# Altium footprint library bot_pcblib.PcbLib: 31 footprints (part 1 of 2)
Each footprint in its own frame and in the unit in brackets; x right, y up, seen from the top. Pads: shape width x height; smd on the part's side, far side on the other; paste and mask are expansions set on the pad; w line width, h text height; cw(c..) or ccw(c..) is an arc to the next point about the centre after c.
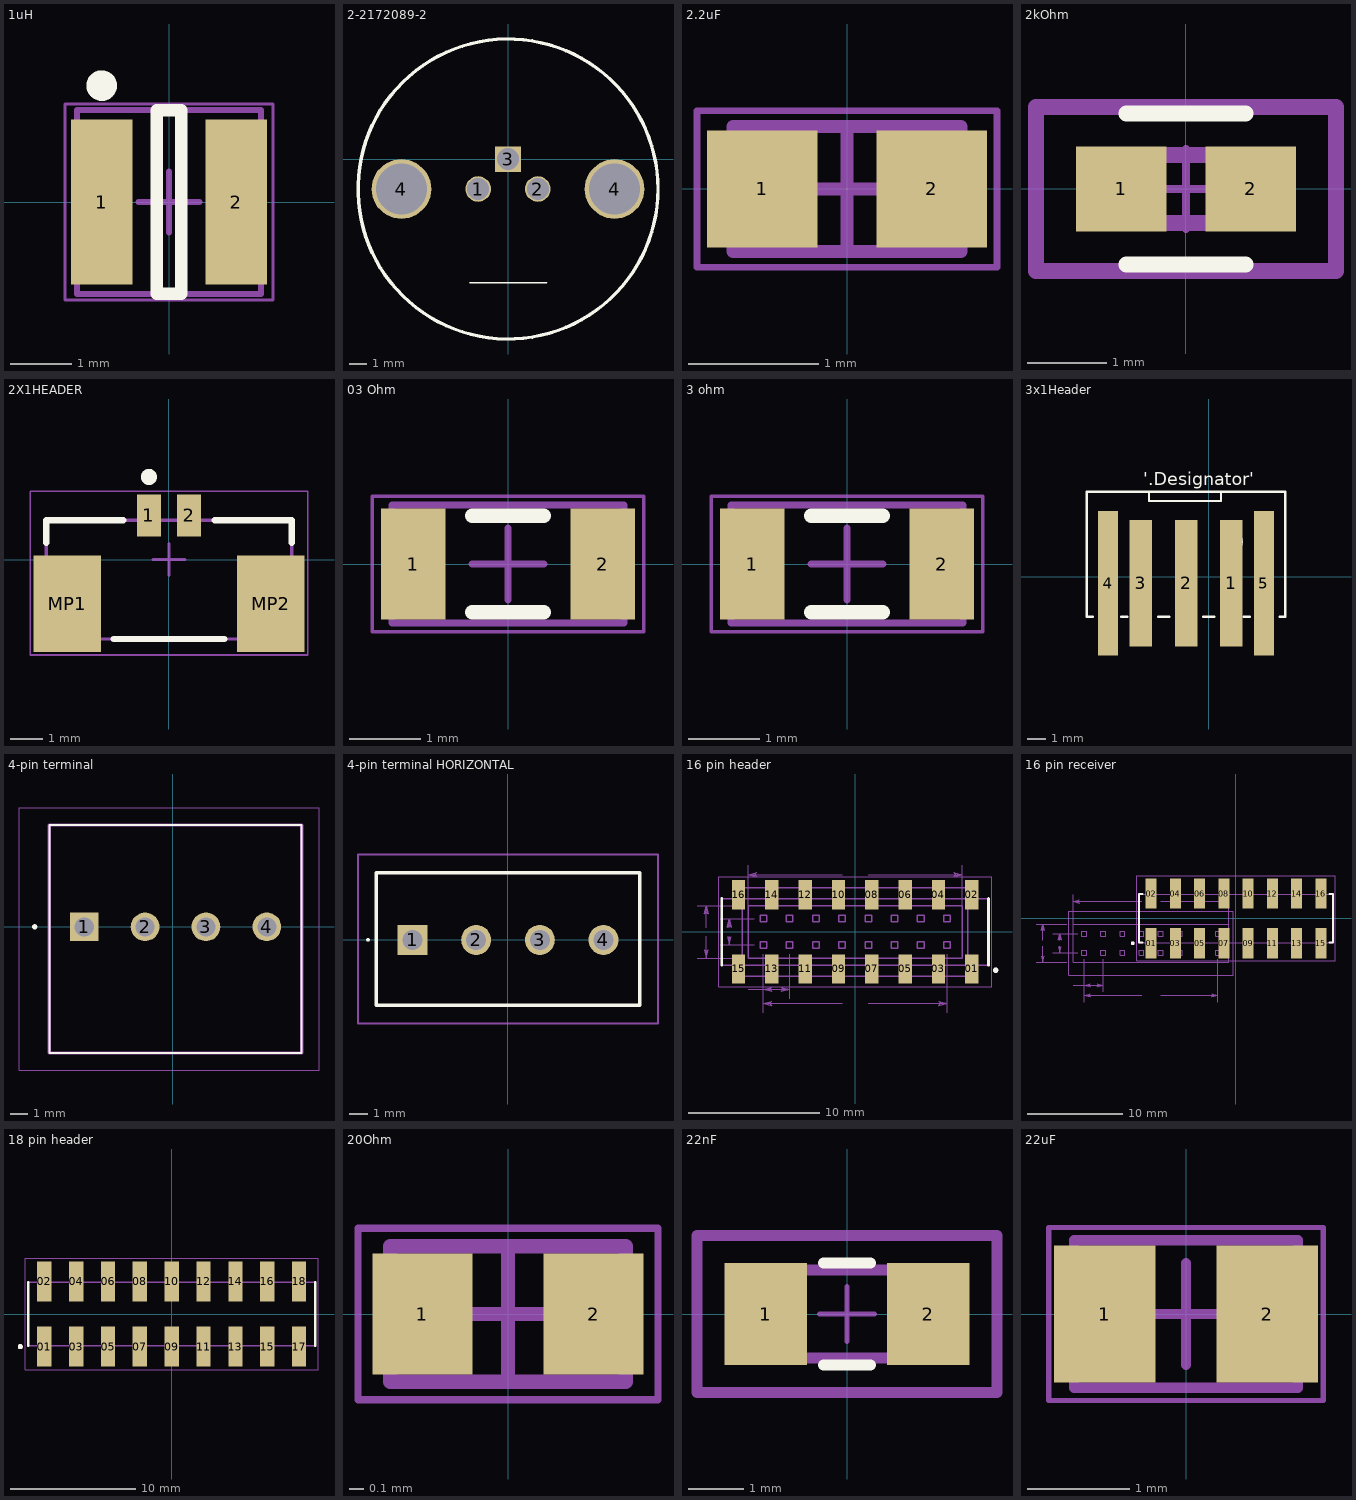
[diagram p0: the footprints below, top view; thin cyan lines are the x and y axes]

## 1uH [mm]
pads (2):
  rect 1x2.7 smd: 1(-1.1,0) 2(1.1,0)
Top Overlay:
  circle w0.25: c-1.1,1.9 r0.125
  lines w0.2: -0.2,-1.5 0.2,-1.5 0.2,1.5 -0.2,1.5 -0.2,-1.5
Mechanical 13:
  lines w0.1: -1.5,-1.5 1.5,-1.5 1.5,1.5 -1.5,1.5 -1.5,-1.5
Mechanical 15:
  lines w0.05: -1.7,-1.6 1.7,-1.6 1.7,1.6 -1.7,1.6 -1.7,-1.6
  lines w0.1: -0.5,0 0.5,0 ; 0,-0.5 0,0.5
3D body: height 1.5, standoff 0, extent -1.5,-1.5 1.5,1.5

## 2-2172089-2 [mm]
pads (5):
  round 1.5 hole 1.3: 1(-1.75,-1.75) 2(1.75,-1.75)
  rect 1.5x1.5 hole 1.3: 3(0,0)
  round 3.5 hole 3: 4(-6.25,-1.75) 4(6.25,-1.75)
Top Overlay:
  circle w0.2: c0,-1.75 r8.798
  lines w0.1: -2.225,-7.25 2.275,-7.25
3D body "c-2-2172089-2-a-3d.stp": height 15.71, standoff -2.89, extent -6.4,-8.15 6.4,4.65

## 2.2uF [mm]
pads (2):
  rect 0.85x0.9 smd: 1(-0.65,0) 2(0.65,0)
Mechanical 13:
  lines w0.1: -0.875,-0.48 0.875,-0.48 0.875,0.48 -0.875,0.48 -0.875,-0.48
Mechanical 15:
  lines w0.05: -1.15,-0.6 1.15,-0.6 1.15,0.6 -1.15,0.6 -1.15,-0.6
  lines w0.1: -0.48,0 0.48,0 ; 0,-0.48 0,0.48
3D body: height 0.9, standoff 0, extent 0.525,-0.48 0.875,0.48
3D body: height 0.9, standoff 0, extent -0.875,-0.48 -0.525,0.48
3D body: height 0.9, standoff 0, extent -0.525,-0.48 0.525,0.48

## 2kOhm [mm]
pads (2):
  rect 1.135x1.062 smd paste+0 mask+0: 1(-0.815,0) 2(0.815,0)
Top Overlay:
  lines w0.2: -0.75,-0.95 0.75,-0.95 ; -0.75,0.95 0.75,0.95
Mechanical 5:
  lines w0.2: -1.883,-1.031 -1.883,1.031 1.883,1.031 1.883,-1.031 -1.883,-1.031
  text ".Designator" at 0,0.188 h1
Mechanical 13:
  lines w0.2: -0.775,-0.425 -0.775,0.425 0.775,0.425 0.775,-0.425 -0.775,-0.425
Mechanical 15:
  lines w0.2: -1.883,-1.031 -1.883,1.031 1.883,1.031 1.883,-1.031 -1.883,-1.031
Mechanical 16:
  lines w0.1: -0.5,0 0.5,0 ; 0,-0.5 0,0.5
3D body "Res_Vishay_CRCW06033M90FKEC_eec.STEP": height 0.25, standoff 0, extent -1.883,-1.031 1.883,1.031

## 2X1HEADER [mm]
pads (4):
  rect 0.75x1.3 smd: 1(-0.625,1.375) 2(0.625,1.375)
  rect 2.1x3 smd: MP1(-3.175,-1.375) MP2(3.175,-1.375)
Top Overlay:
  circle w0.25: c-0.625,2.575 r0.125
  lines w0.2: -3.825,0.525 -3.825,1.225 -1.425,1.225 ; -1.725,-2.475 1.725,-2.475 ; 1.425,1.225 3.825,1.225 3.825,0.525
Mechanical 13:
  lines w0.1: -3.825,-2.475 -3.825,1.225 3.825,1.225 3.825,-2.475 -3.825,-2.475
Mechanical 15:
  lines w0.05: -4.325,-2.975 4.325,-2.975 4.325,2.125 -4.325,2.125 -4.325,-2.975
  lines w0.1: -0.5,0 0.5,0 ; 0,-0.5 0,0.5
3D body "533980271.stp": height 4.72, standoff -0.02, extent -3.825,-2.87 3.825,1.33

## 03 Ohm [mm]
pads (2):
  rect 0.9x1.55 smd: 1(-1.325,0) 2(1.325,0)
Top Overlay:
  lines w0.2: -0.5,-0.675 0.5,-0.675 ; -0.5,0.675 0.5,0.675
Mechanical 13:
  lines w0.1: -1.625,-0.825 1.625,-0.825 1.625,0.825 -1.625,0.825 -1.625,-0.825
Mechanical 15:
  lines w0.05: -1.9,-0.95 1.9,-0.95 1.9,0.95 -1.9,0.95 -1.9,-0.95
  lines w0.1: -0.5,0 0.5,0 ; 0,-0.5 0,0.5
3D body: height 0.7, standoff 0, extent 1.125,-0.825 1.625,0.825
3D body: height 0.7, standoff 0, extent -1.625,-0.825 -1.125,0.825
3D body: height 0.7, standoff 0, extent -1.125,-0.825 1.125,0.825

## 3 ohm [mm]
pads (2):
  rect 0.9x1.55 smd: 1(-1.325,0) 2(1.325,0)
Top Overlay:
  lines w0.2: -0.5,-0.675 0.5,-0.675 ; -0.5,0.675 0.5,0.675
Mechanical 13:
  lines w0.1: -1.625,-0.825 -1.625,0.825 1.625,0.825 1.625,-0.825 -1.625,-0.825
Mechanical 15:
  lines w0.05: -1.9,-0.95 -1.9,0.95 1.9,0.95 1.9,-0.95 -1.9,-0.95
  lines w0.1: -0.5,0 0.5,0 ; 0,-0.5 0,0.5
3D body: height 0.7, standoff 0, extent -1.125,-0.825 1.125,0.825
3D body: height 0.7, standoff 0, extent -1.625,-0.825 -1.125,0.825
3D body: height 0.7, standoff 0, extent 1.125,-0.825 1.625,0.825

## 3x1Header [mil]
pads (5):
  rect 49x276 smd paste+0 mask+0: 1(49.21,-14.17) 2(-49.21,-14.17) 3(-149.21,-14.17)
  rect 43x315 smd: 4(-220.28,-14.17) 5(120.28,-14.17)
Top Overlay:
  circle w20: c49.21,76.77 r15
  lines w3.94: -130.91,185.04 -130.91,165.35 26.57,165.35 26.57,185.04
  lines w6: -266.99,-87.29 -266.99,185.71 ; -266.73,185.71 167,185.71 167,-87.29 154.88,-87.29 ; -266.06,-87.29 -253.94,-87.29 ; -191.26,-87.29 -179.13,-87.29 ; -110.04,-87.29 -86.81,-87.29 ; -11.61,-87.29 11.61,-87.29 ; 76.46,-87.29 88.58,-87.29
  text "'.Designator'" at -143.7,200.13 h27.56
Bottom Overlay:
  circle w20: c49.21,76.77 r15
Mechanical 29:
  lines w3.94: -130.91,185.04 -130.91,165.35 26.57,165.35 26.57,185.04
  text "'.Designator'" at -143.7,200.13 h27.56
3D body: height 10, standoff 0, extent 0,49.21 10,59.21
3D body "1054311103.stp": height 439.87, standoff 0.5, extent -258.46,-148.04 163.98,176.78

## 4-pin terminal [mm]
pads (4):
  rect 1.65x1.65 hole 1.1: 1(-5.08,0)
  round 1.65 hole 1.1: 2(-1.58,0) 3(1.92,0) 4(5.42,0)
Top Overlay:
  circle w0.2: c-7.93,0 r0.05
  lines w0.1: -7.08,-7.255 -7.08,5.855 7.42,5.855 7.42,-7.255 -7.08,-7.255
Mechanical 13:
  lines w0.2: -7.08,-7.255 -7.08,5.855 7.42,5.855 7.42,-7.255 -7.08,-7.255
Mechanical 15:
  lines w0.05: -8.83,-8.255 -8.83,6.855 8.42,6.855 8.42,-8.255 -8.83,-8.255
3D body "1751112.stp": height 9.46, standoff -3.54, extent -7.05,-4.23 7.45,5.77

## 4-pin terminal HORIZONTAL [mm]
pads (4):
  rect 1.65x1.65 hole 1.1: 1(-5.25,0)
  round 1.65 hole 1.1: 2(-1.75,0) 3(1.75,0) 4(5.25,0)
Top Overlay:
  lines w0.1: -7.75,0 cw(c-7.7,0) -7.65,0 cw(c-7.7,0) -7.75,0
  lines w0.2: -7.25,-3.6 7.25,-3.6 7.25,3.7 -7.25,3.7 -7.25,-3.6
Mechanical 13:
  lines w0.1: -7.25,-3.6 7.25,-3.6 7.25,3.7 -7.25,3.7 -7.25,-3.6
Mechanical 15:
  lines w0.1: -8.25,-4.6 8.25,-4.6 8.25,4.7 -8.25,4.7 -8.25,-4.6
3D body "1050488.stp": height 8.73, standoff -3.27, extent -7.25,-3.6 7.25,3.7

## 16 pin header [mm]
pads (16):
  rect 1.02x2.22 smd: 01(8.89,-2.825) 02(8.89,2.825) 03(6.35,-2.825) 04(6.35,2.825) 05(3.81,-2.825) 06(3.81,2.825) 07(1.27,-2.825) 08(1.27,2.825) 09(-1.27,-2.825) 10(-1.27,2.825) 11(-3.81,-2.825) 12(-3.81,2.825) 13(-6.35,-2.825) 14(-6.35,2.825) 15(-8.89,-2.825) 16(-8.89,2.825)
Top Overlay:
  circle w0.2: c10.71,-2.93 r0.1
  lines w0.2: -10.16,-2.54 -10.16,2.54 ; 10.16,-2.54 10.16,2.54
Mechanical 3:
  lines w0.1: -8.149,-2 -8.149,2 -6,2 -4,2 -2,2 0,2 2,2 4,2 6,2 8.149,2 8.149,-2 6,-2 4,-2 2,-2 0,-2 -2,-2 -4,-2 -6,-2 -8.149,-2 ; -7.25,-1.25 -6.75,-1.25 -6.75,-0.75 -7.25,-0.75 -7.25,-1.25 ; -7.25,0.75 -6.75,0.75 -6.75,1.25 -7.25,1.25 -7.25,0.75 ; -5.25,-1.25 -4.75,-1.25 -4.75,-0.75 -5.25,-0.75 -5.25,-1.25 ; -5.25,0.75 -4.75,0.75 -4.75,1.25 -5.25,1.25 -5.25,0.75 ; -3.25,-1.25 -2.75,-1.25 -2.75,-0.75 -3.25,-0.75 -3.25,-1.25 ; -3.25,0.75 -2.75,0.75 -2.75,1.25 -3.25,1.25 -3.25,0.75 ; -1.25,-1.25 -0.75,-1.25 -0.75,-0.75 -1.25,-0.75 -1.25,-1.25 ; -1.25,0.75 -0.75,0.75 -0.75,1.25 -1.25,1.25 -1.25,0.75 ; 0.75,-1.25 1.25,-1.25 1.25,-0.75 0.75,-0.75 0.75,-1.25 ; 0.75,0.75 1.25,0.75 1.25,1.25 0.75,1.25 0.75,0.75 ; 2.75,-1.25 3.25,-1.25 3.25,-0.75 2.75,-0.75 2.75,-1.25 ; 2.75,0.75 3.25,0.75 3.25,1.25 2.75,1.25 2.75,0.75 ; 4.75,-1.25 5.25,-1.25 5.25,-0.75 4.75,-0.75 4.75,-1.25 ; 4.75,0.75 5.25,0.75 5.25,1.25 4.75,1.25 4.75,0.75 ; 6.75,-1.25 6.75,-0.75 7.25,-0.75 7.25,-1.25 6.75,-1.25 ; 6.75,0.75 7.25,0.75 7.25,1.25 6.75,1.25 6.75,0.75
  text "16" at 8.939,-1.635 h1.97
  text "15" at 8.939,0.365 h1.97
  text "2" at -9.969,-1.635 h1.97
  text "1" at -9.969,0.365 h1.97
Mechanical 13:
  circle w0.2: c10.71,-2.93 r0.1
  lines w0.1: -10.16,-2.54 -10.16,2.54 10.16,2.54 10.16,-2.54 -10.16,-2.54
Mechanical 15:
  lines w0.05: -10.41,-4.185 -10.41,4.185 10.41,4.185 10.41,-4.185 -10.41,-4.185
Mechanical 30:
  lines w0: -12.055,-1.999 -8.854,-1.999 ; -12.055,2.002 -8.854,2.002 ; -11.354,-0.318 -11.354,-1.999 ; -11.354,0.318 -11.354,2.002 ; -10.29,-1 -7.701,-1 ; -10.29,1 -7.701,1 ; -9.588,-0.318 -9.588,-1 ; -9.588,0.318 -9.588,1 ; -8.166,-4.382 -7,-4.382 ; -8.153,-1.298 -8.153,5.07 ; -7,-6.162 -7,-1.701 -7,-5.083 ; -5,-5.083 -5,-1.701 ; -0.991,-5.461 -7,-5.461 ; -0.991,4.369 -8.153,4.369 ; 0.991,-5.461 7,-5.461 ; 0.991,4.369 8.153,4.369 ; 7,-6.162 7,-1.701 ; 8.153,-1.298 8.153,5.07 ; -11.513,-1.364 -11.433,-1.427 -11.354,-1.999 ; -11.513,-1.364 -11.354,-1.491 ; -11.513,-1.364 -11.354,-1.999 ; -11.354,-1.999 -11.354,-1.491 ; -11.354,-1.999 -11.274,-1.427 -11.354,-1.491 ; -11.354,-1.999 -11.195,-1.364 -11.354,-1.491 ; -11.354,1.494 -11.354,2.002 ; -11.354,1.494 -11.433,1.43 -11.354,2.002 ; -11.354,1.494 -11.195,1.367 ; -11.354,1.494 -11.513,1.367 -11.354,2.002 ; -11.354,2.002 -11.274,1.43 -11.195,1.367 ; -11.354,2.002 -11.195,1.367 ; -9.747,-0.365 -9.668,-0.428 -9.588,-1 ; -9.747,-0.365 -9.588,-0.492 ; -9.747,-0.365 -9.588,-1 ; -9.588,-1 -9.588,-0.492 ; -9.588,-1 -9.509,-0.428 -9.588,-0.492 ; -9.588,-1 -9.43,-0.365 -9.588,-0.492 ; -9.588,0.492 -9.588,1 ; -9.588,0.492 -9.668,0.428 -9.588,1 ; -9.588,0.492 -9.43,0.365 ; -9.588,0.492 -9.747,0.365 -9.588,1 ; -9.588,1 -9.509,0.428 -9.43,0.365 ; -9.588,1 -9.43,0.365 ; -8.153,4.369 -7.582,4.448 -7.518,4.528 ; -8.153,4.369 -7.645,4.369 ; -8.153,4.369 -7.582,4.289 -7.645,4.369 ; -8.153,4.369 -7.518,4.21 -7.645,4.369 ; -8.153,4.369 -7.518,4.528 ; -7.645,4.369 -7.518,4.528 ; -7,-5.461 -6.428,-5.382 -6.365,-5.302 ; -7,-5.461 -6.492,-5.461 ; -7,-5.461 -6.428,-5.54 -6.492,-5.461 ; -7,-5.461 -6.365,-5.62 -6.492,-5.461 ; -7,-5.461 -6.365,-5.302 ; -7,-4.382 -5,-4.382 ; -7,-4.382 -6.428,-4.302 -6.365,-4.223 ; -7,-4.382 -6.492,-4.382 ; -7,-4.382 -6.428,-4.461 -6.492,-4.382 ; -7,-4.382 -6.365,-4.54 -6.492,-4.382 ; -7,-4.382 -6.365,-4.223 ; -6.492,-5.461 -6.365,-5.302 ; -6.492,-4.382 -6.365,-4.223 ; -5.635,-4.54 -5.571,-4.461 -5,-4.382 ; -5.635,-4.54 -5.508,-4.382 ; -5.635,-4.54 -5,-4.382 ; -5.508,-4.382 -5,-4.382 ; -5.508,-4.382 -5.571,-4.302 -5,-4.382 ; -5.508,-4.382 -5.635,-4.223 -5,-4.382 ; 6.365,-5.62 6.428,-5.54 7,-5.461 ; 6.365,-5.62 6.492,-5.461 ; 6.365,-5.62 7,-5.461 ; 6.492,-5.461 7,-5.461 ; 6.492,-5.461 6.428,-5.382 7,-5.461 ; 6.492,-5.461 6.365,-5.302 7,-5.461 ; 7.518,4.21 7.582,4.289 8.153,4.369 ; 7.518,4.21 7.645,4.369 ; 7.518,4.21 8.153,4.369 ; 7.645,4.369 8.153,4.369 ; 7.645,4.369 7.582,4.448 8.153,4.369 ; 7.645,4.369 7.518,4.528 8.153,4.369
  text "16.307" at -0.8,4.242 h0.39
  text "14.000" at -0.8,-5.588 h0.39
  text "4.000" at -12.014,-0.127 h0.39
  text "2.000" at -10.249,-0.127 h0.39
  text "2.000" at -9.677,-4.508 h0.39
Mechanical 32:
  lines w0.1: -8.599,-3.37 8.599,-3.37 8.599,3.37 -8.599,3.37 -8.599,-3.37
3D body "SSM-108-S-DV.stp": height 7.43, standoff 0.01, extent -10.16,-3.518 10.16,3.518

## 16 pin receiver [mm]
pads (16):
  rect 1.14x3.175 smd: 01(-8.89,-2.602) 02(-8.89,2.603) 03(-6.35,-2.602) 04(-6.35,2.603) 05(-3.81,-2.602) 06(-3.81,2.603) 07(-1.27,-2.602) 08(-1.27,2.603) 09(1.27,-2.602) 10(1.27,2.603) 11(3.81,-2.602) 12(3.81,2.603) 13(6.35,-2.602) 14(6.35,2.603) 15(8.89,-2.602) 16(8.89,2.603)
Top Overlay:
  circle w0.2: c-10.81,-2.602 r0.1
  lines w0.2: -9.81,-2.541 -10.16,-2.541 -10.16,2.541 -9.81,2.541 ; 9.81,-2.541 10.16,-2.541 10.16,2.541 9.81,2.541
Mechanical 3:
  lines w0.1: -17.039,-4.602 -14.89,-4.602 -12.89,-4.602 -10.89,-4.602 -8.89,-4.602 -6.89,-4.602 -4.89,-4.602 -2.89,-4.602 -0.741,-4.602 -0.741,-0.603 -2.89,-0.603 -4.89,-0.603 -6.89,-0.603 -8.89,-0.603 -10.89,-0.603 -12.89,-0.603 -14.89,-0.603 -17.039,-0.603 -17.039,-4.602 ; -16.14,-3.852 -16.14,-3.353 -15.64,-3.353 -15.64,-3.852 -16.14,-3.852 ; -16.14,-1.852 -16.14,-1.353 -15.64,-1.353 -15.64,-1.852 -16.14,-1.852 ; -14.14,-3.852 -14.14,-3.353 -13.64,-3.353 -13.64,-3.852 -14.14,-3.852 ; -14.14,-1.852 -14.14,-1.353 -13.64,-1.353 -13.64,-1.852 -14.14,-1.852 ; -12.14,-3.852 -12.14,-3.353 -11.64,-3.353 -11.64,-3.852 -12.14,-3.852 ; -12.14,-1.852 -12.14,-1.353 -11.64,-1.353 -11.64,-1.852 -12.14,-1.852 ; -10.14,-3.852 -10.14,-3.353 -9.64,-3.353 -9.64,-3.852 -10.14,-3.852 ; -10.14,-1.852 -10.14,-1.353 -9.64,-1.353 -9.64,-1.852 -10.14,-1.852 ; -8.14,-3.852 -8.14,-3.353 -7.64,-3.353 -7.64,-3.852 -8.14,-3.852 ; -8.14,-1.852 -8.14,-1.353 -7.64,-1.353 -7.64,-1.852 -8.14,-1.852 ; -6.14,-3.852 -6.14,-3.353 -5.64,-3.353 -5.64,-3.852 -6.14,-3.852 ; -6.14,-1.852 -6.14,-1.353 -5.64,-1.353 -5.64,-1.852 -6.14,-1.852 ; -4.14,-3.852 -4.14,-3.353 -3.64,-3.353 -3.64,-3.852 -4.14,-3.852 ; -4.14,-1.852 -4.14,-1.353 -3.64,-1.353 -3.64,-1.852 -4.14,-1.852 ; -2.14,-3.852 -1.64,-3.852 -1.64,-3.353 -2.14,-3.353 -2.14,-3.852 ; -2.14,-1.852 -2.14,-1.353 -1.64,-1.353 -1.64,-1.852 -2.14,-1.852
  text "1" at -18.859,-2.238 h1.97
  text "2" at -18.859,-4.237 h1.97
  text "15" at 0.049,-2.238 h1.97
  text "16" at 0.049,-4.237 h1.97
Mechanical 13:
  circle w0.2: c-10.81,-2.602 r0.1
  lines w0.1: -10.16,-2.541 -10.16,2.541 ; -10.16,-2.541 10.16,-2.541 ; -10.16,-2.541 -10.16,2.541 ; -10.16,2.541 10.16,2.541 ; -10.16,2.541 10.16,2.541 ; 10.16,-2.541 10.16,2.541 ; 10.16,-2.541 10.16,2.541
Mechanical 15:
  lines w0.05: -10.41,-4.439 -10.41,4.441 10.41,4.441 10.41,-4.439 -10.41,-4.439
Mechanical 30:
  lines w0: -20.945,-4.601 -17.744,-4.601 ; -20.945,-0.6 -17.744,-0.6 ; -20.244,-2.921 -20.244,-4.601 ; -20.244,-2.284 -20.244,-0.6 ; -19.18,-3.602 -16.591,-3.602 ; -19.18,-1.603 -16.591,-1.603 ; -18.478,-2.921 -18.478,-3.602 ; -18.478,-2.284 -18.478,-1.603 ; -17.056,-6.985 -15.89,-6.985 ; -17.043,-3.9 -17.043,2.468 ; -15.89,-8.765 -15.89,-4.304 -15.89,-7.686 ; -13.89,-7.686 -13.89,-4.304 ; -9.881,-8.063 -15.89,-8.063 ; -9.881,1.767 -17.043,1.767 ; -7.899,-8.063 -1.89,-8.063 ; -7.899,1.767 -0.737,1.767 ; -1.89,-8.765 -1.89,-4.304 ; -0.737,-3.9 -0.737,2.468 ; -20.403,-3.966 -20.244,-4.601 ; -20.403,-3.966 -20.244,-4.093 ; -20.403,-3.966 -20.323,-4.029 -20.244,-4.601 ; -20.244,-4.601 -20.085,-3.966 -20.244,-4.093 ; -20.244,-4.601 -20.164,-4.029 -20.244,-4.093 ; -20.244,-4.601 -20.244,-4.093 ; -20.244,-1.108 -20.403,-1.235 -20.244,-0.6 ; -20.244,-1.108 -20.085,-1.235 ; -20.244,-1.108 -20.323,-1.172 -20.244,-0.6 ; -20.244,-1.108 -20.244,-0.6 ; -20.244,-0.6 -20.085,-1.235 ; -20.244,-0.6 -20.164,-1.172 -20.085,-1.235 ; -18.637,-2.967 -18.478,-3.602 ; -18.637,-2.967 -18.478,-3.094 ; -18.637,-2.967 -18.558,-3.03 -18.478,-3.602 ; -18.478,-3.602 -18.32,-2.967 -18.478,-3.094 ; -18.478,-3.602 -18.399,-3.03 -18.478,-3.094 ; -18.478,-3.602 -18.478,-3.094 ; -18.478,-2.111 -18.637,-2.238 -18.478,-1.603 ; -18.478,-2.111 -18.32,-2.238 ; -18.478,-2.111 -18.558,-2.175 -18.478,-1.603 ; -18.478,-2.111 -18.478,-1.603 ; -18.478,-1.603 -18.32,-2.238 ; -18.478,-1.603 -18.399,-2.175 -18.32,-2.238 ; -17.043,1.767 -16.408,1.926 ; -17.043,1.767 -16.408,1.608 -16.535,1.767 ; -17.043,1.767 -16.472,1.687 -16.535,1.767 ; -17.043,1.767 -16.535,1.767 ; -17.043,1.767 -16.472,1.846 -16.408,1.926 ; -16.535,1.767 -16.408,1.926 ; -15.89,-8.063 -15.255,-7.904 ; -15.89,-8.063 -15.255,-8.223 -15.382,-8.063 ; -15.89,-8.063 -15.318,-8.142 -15.382,-8.063 ; -15.89,-8.063 -15.382,-8.063 ; -15.89,-8.063 -15.318,-7.985 -15.255,-7.904 ; -15.89,-6.985 -15.255,-6.826 ; -15.89,-6.985 -15.255,-7.142 -15.382,-6.985 ; -15.89,-6.985 -15.318,-7.064 -15.382,-6.985 ; -15.89,-6.985 -15.382,-6.985 ; -15.89,-6.985 -15.318,-6.904 -15.255,-6.826 ; -15.89,-6.985 -13.89,-6.985 ; -15.382,-8.063 -15.255,-7.904 ; -15.382,-6.985 -15.255,-6.826 ; -14.525,-7.142 -13.89,-6.985 ; -14.525,-7.142 -14.398,-6.985 ; -14.525,-7.142 -14.461,-7.064 -13.89,-6.985 ; -14.398,-6.985 -14.525,-6.826 -13.89,-6.985 ; -14.398,-6.985 -14.461,-6.904 -13.89,-6.985 ; -14.398,-6.985 -13.89,-6.985 ; -2.525,-8.223 -1.89,-8.063 ; -2.525,-8.223 -2.398,-8.063 ; -2.525,-8.223 -2.462,-8.142 -1.89,-8.063 ; -2.398,-8.063 -2.525,-7.904 -1.89,-8.063 ; -2.398,-8.063 -2.462,-7.985 -1.89,-8.063 ; -2.398,-8.063 -1.89,-8.063 ; -1.372,1.608 -0.737,1.767 ; -1.372,1.608 -1.245,1.767 ; -1.372,1.608 -1.308,1.687 -0.737,1.767 ; -1.245,1.767 -1.372,1.926 -0.737,1.767 ; -1.245,1.767 -1.308,1.846 -0.737,1.767 ; -1.245,1.767 -0.737,1.767
  text "2.000" at -18.567,-7.11 h0.39
  text "2.000" at -19.139,-2.729 h0.39
  text "4.000" at -20.904,-2.729 h0.39
  text "14.000" at -9.69,-8.19 h0.39
  text "16.307" at -9.69,1.64 h0.39
Mechanical 32:
  lines w0.1: -17.489,-5.973 -17.489,0.768 -0.291,0.768 -0.291,-5.973 -17.489,-5.973
3D body "HW-08-11-F-D-511-SM.stp": height 21.98, standoff 0.01, extent -10.16,-3.747 10.16,3.747

## 18 pin header [mm]
pads (18):
  rect 1.14x3.175 smd: 01(-10.16,-2.602) 02(-10.16,2.603) 03(-7.62,-2.602) 04(-7.62,2.603) 05(-5.08,-2.602) 06(-5.08,2.603) 07(-2.54,-2.602) 08(-2.54,2.603) 09(0,-2.602) 10(0,2.603) 11(2.54,-2.602) 12(2.54,2.603) 13(5.08,-2.602) 14(5.08,2.603) 15(7.62,-2.602) 16(7.62,2.603) 17(10.16,-2.602) 18(10.16,2.603)
Top Overlay:
  circle w0.2: c-12.08,-2.602 r0.1
  lines w0.2: -11.43,-2.541 -11.43,2.541 ; 11.43,-2.541 11.43,2.541
Mechanical 13:
  circle w0.2: c-12.08,-2.602 r0.1
  lines w0.1: -11.43,-2.541 -11.43,2.541 ; -11.43,-2.541 11.43,-2.541 ; -11.43,-2.541 -11.43,2.541 ; -11.43,2.541 11.43,2.541 ; -11.43,2.541 11.43,2.541 ; 11.43,-2.541 11.43,2.541 ; 11.43,-2.541 11.43,2.541
Mechanical 15:
  lines w0.05: -11.68,-4.439 11.68,-4.439 11.68,4.441 -11.68,4.441 -11.68,-4.439
3D body "HW-09-11-F-D-511-SM.stp": height 21.98, standoff 0.01, extent -11.43,-3.746 11.43,3.747

## 20Ohm [mm]
pads (2):
  rect 0.7x0.85 smd: 1(-0.6,0) 2(0.6,0)
Mechanical 13:
  lines w0.1: -0.825,-0.475 0.825,-0.475 0.825,0.475 -0.825,0.475 -0.825,-0.475
Mechanical 15:
  lines w0.05: -1.05,-0.6 1.05,-0.6 1.05,0.6 -1.05,0.6 -1.05,-0.6
  lines w0.1: -0.475,0 0.475,0 ; 0,-0.475 0,0.475
3D body: height 0.5, standoff 0, extent 0.525,-0.475 0.825,0.475
3D body: height 0.5, standoff 0, extent -0.825,-0.475 -0.525,0.475
3D body: height 0.5, standoff 0, extent -0.525,-0.475 0.525,0.475

## 22nF [mm]
pads (2):
  rect 1.506x1.858 smd paste+0 mask+0: 1(-1.476,0) 2(1.476,0)
Top Overlay:
  lines w0.2: -0.423,-0.929 0.423,-0.929 ; -0.423,0.929 0.423,0.929
Mechanical 5:
  lines w0.2: -2.729,-1.429 2.729,-1.429 2.729,1.429 -2.729,1.429 -2.729,-1.429
  text ".Designator" at 0,0.188 h1
Mechanical 13:
  lines w0.2: -1.6,-0.8 1.6,-0.8 1.6,0.8 -1.6,0.8 -1.6,-0.8
Mechanical 15:
  lines w0.2: -2.729,-1.429 2.729,-1.429 2.729,1.429 -2.729,1.429 -2.729,-1.429
Mechanical 16:
  lines w0.1: -0.5,0 0.5,0 ; 0,-0.5 0,0.5
3D body "Cap_Murata_GRM3195C1H273JA01D_eec.STEP": height 0.25, standoff 0, extent -2.729,-1.429 2.729,1.429

## 22uF [mm]
pads (2):
  rect 1x1.35 smd: 1(-0.8,0) 2(0.8,0)
Mechanical 13:
  lines w0.1: -1.1,-0.725 -1.1,0.725 1.1,0.725 1.1,-0.725 -1.1,-0.725
Mechanical 15:
  lines w0.05: -1.35,-0.85 -1.35,0.85 1.35,0.85 1.35,-0.85 -1.35,-0.85
  lines w0.1: -0.5,0 0.5,0 ; 0,-0.5 0,0.5
3D body: height 1.45, standoff 0, extent -0.6,-0.725 0.6,0.725
3D body: height 1.45, standoff 0, extent -1.1,-0.725 -0.6,0.725
3D body: height 1.45, standoff 0, extent 0.6,-0.725 1.1,0.725